# EAGLE library part UA6527 (library fc-nes)
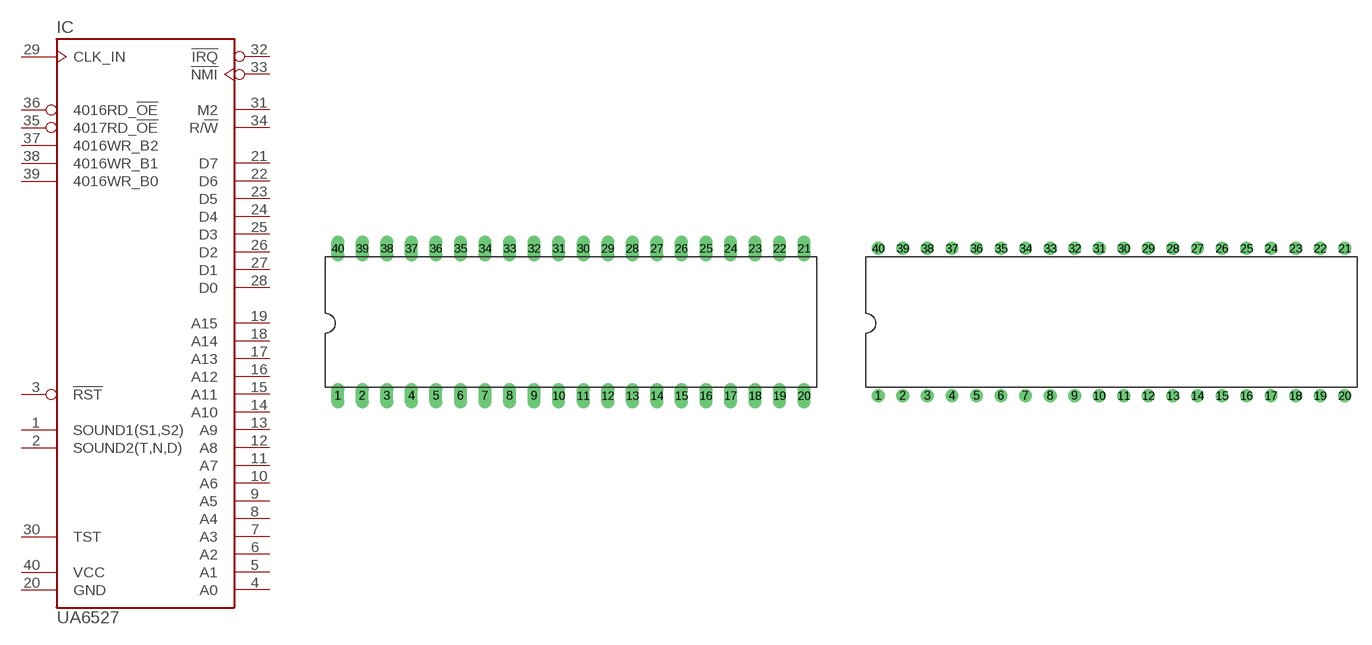
[diagram p3: symbol with the pads of DIL40W; footprints DIL40W, DIL40]

Designator prefix IC

## UA6527W  [DIL40W]
1  SOUND1(S1,S2)  out
2  SOUND2(T,N,D)  out
3  !RST  in
4  A0  out
5  A1  out
6  A2  out
7  A3  out
8  A4  out
9  A5  out
10  A6  out
11  A7  out
12  A8  out
13  A9  out
14  A10  out
15  A11  out
16  A12  out
17  A13  out
18  A14  out
19  A15  out
20  GND  pwr
21  D7
22  D6
23  D5
24  D4
25  D3
26  D2
27  D1
28  D0
29  CLK_IN  in
30  TST  in
31  M2  out
32  !IRQ  in
33  !NMI  in
34  R/!W  out
35  4017RD_!OE  out
36  4016RD_!OE  out
37  4016WR_B2  out
38  4016WR_B1  out
39  4016WR_B0  out
40  VCC  pwr

## UA6527  [DIL40]
Pads as for DIL40W

## Footprint DIL40W (pad centres in mm)
Dual In Line Package
drill 0.813 long: 1 -24.13,-7.62; 2 -21.59,-7.62; 3 -19.05,-7.62; 4 -16.51,-7.62; 5 -13.97,-7.62; 6 -11.43,-7.62; 7 -8.89,-7.62; 8 -6.35,-7.62; 9 -3.81,-7.62; 10 -1.27,-7.62; 11 1.27,-7.62; 12 3.81,-7.62; 13 6.35,-7.62; 14 8.89,-7.62; 15 11.43,-7.62; 16 13.97,-7.62; 17 16.51,-7.62; 18 19.05,-7.62; 19 21.59,-7.62; 20 24.13,-7.62; 21 24.13,7.62; 22 21.59,7.62; 23 19.05,7.62; 24 16.51,7.62; 25 13.97,7.62; 26 11.43,7.62; 27 8.89,7.62; 28 6.35,7.62; 29 3.81,7.62; 30 1.27,7.62; 31 -1.27,7.62; 32 -3.81,7.62; 33 -6.35,7.62; 34 -8.89,7.62; 35 -11.43,7.62; 36 -13.97,7.62; 37 -16.51,7.62; 38 -19.05,7.62; 39 -21.59,7.62; 40 -24.13,7.62

## Footprint DIL40 (pad centres in mm)
Dual In Line Package
drill 0.813: 1 -24.13,-7.62; 2 -21.59,-7.62; 3 -19.05,-7.62; 4 -16.51,-7.62; 5 -13.97,-7.62; 6 -11.43,-7.62; 7 -8.89,-7.62; 8 -6.35,-7.62; 9 -3.81,-7.62; 10 -1.27,-7.62; 11 1.27,-7.62; 12 3.81,-7.62; 13 6.35,-7.62; 14 8.89,-7.62; 15 11.43,-7.62; 16 13.97,-7.62; 17 16.51,-7.62; 18 19.05,-7.62; 19 21.59,-7.62; 20 24.13,-7.62; 21 24.13,7.62; 22 21.59,7.62; 23 19.05,7.62; 24 16.51,7.62; 25 13.97,7.62; 26 11.43,7.62; 27 8.89,7.62; 28 6.35,7.62; 29 3.81,7.62; 30 1.27,7.62; 31 -1.27,7.62; 32 -3.81,7.62; 33 -6.35,7.62; 34 -8.89,7.62; 35 -11.43,7.62; 36 -13.97,7.62; 37 -16.51,7.62; 38 -19.05,7.62; 39 -21.59,7.62; 40 -24.13,7.62